# EAGLE library part PICBASIC2000_R1 (library comfile_G)
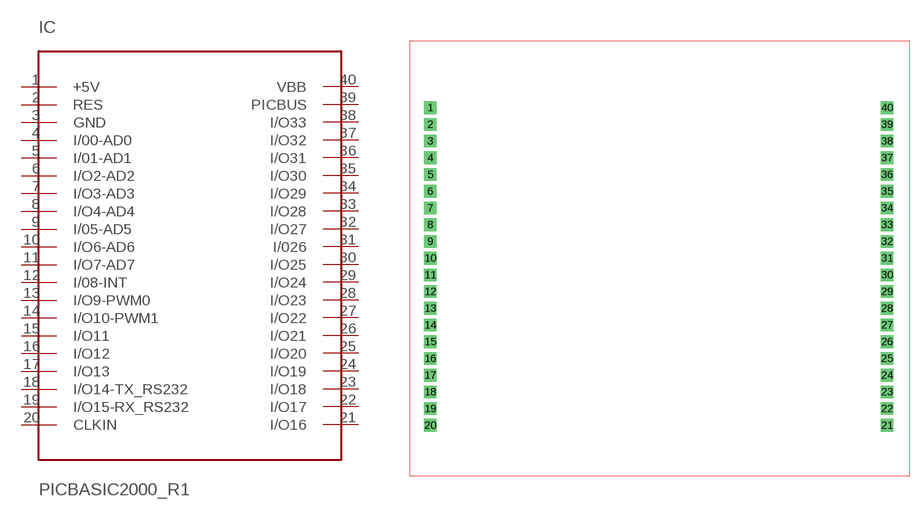
[diagram p1: symbol with the pads of PICBASIC2000_R1; footprint PICBASIC2000_R1]

Designator prefix IC

## PICBASIC2000_R1  [PICBASIC2000_R1]
1  +5V  pwr
2  RES
3  GND  pwr
4  I/00-AD0
5  I/01-AD1
6  I/O2-AD2
7  I/O3-AD3
8  I/O4-AD4
9  I/05-AD5
10  I/O6-AD6
11  I/O7-AD7
12  I/08-INT
13  I/O9-PWM0
14  I/O10-PWM1
15  I/O11
16  I/O12
17  I/O13
18  I/O14-TX_RS232
19  I/O15-RX_RS232
20  CLKIN  oc
21  I/O16
22  I/O17
23  I/O18
24  I/O19
25  I/O20
26  I/O21
27  I/O22
28  I/O23
29  I/O24
30  I/O25
31  I/026
32  I/O27
33  I/O28
34  I/O29
35  I/O30
36  I/O31
37  I/O32
38  I/O33
39  PICBUS
40  VBB  nc

## Footprint PICBASIC2000_R1 (pad centres in mm)
drill 0.9 pad 1.93 square: 1 3.14,55.88; 2 3.14,53.34; 3 3.14,50.8; 4 3.14,48.26; 5 3.14,45.72; 6 3.14,43.18; 7 3.14,40.64; 8 3.14,38.1; 9 3.14,35.56; 10 3.14,33.02; 11 3.14,30.48; 12 3.14,27.94; 13 3.14,25.4; 14 3.14,22.86; 15 3.14,20.32; 16 3.14,17.78; 17 3.14,15.24; 18 3.14,12.7; 19 3.14,10.16; 20 3.14,7.62; 21 72.58,7.62; 22 72.576,10.16; 23 72.576,12.7; 24 72.576,15.24; 25 72.576,17.78; 26 72.576,20.32; 27 72.576,22.86; 28 72.576,25.4; 29 72.576,27.94; 30 72.576,30.48; 31 72.576,33.02; 32 72.576,35.56; 33 72.576,38.1; 34 72.576,40.64; 35 72.576,43.18; 36 72.576,45.72; 37 72.576,48.26; 38 72.576,50.8; 39 72.576,53.34; 40 72.576,55.88